# Altium footprint library modulo_alimentador_pcblib.PcbLib: 11 footprints
Each footprint in its own frame and in the unit in brackets; x right, y up, seen from the top. Pads: shape width x height; smd on the part's side, far side on the other; paste and mask are expansions set on the pad; w line width, h text height; cw(c..) or ccw(c..) is an arc to the next point about the centre after c.
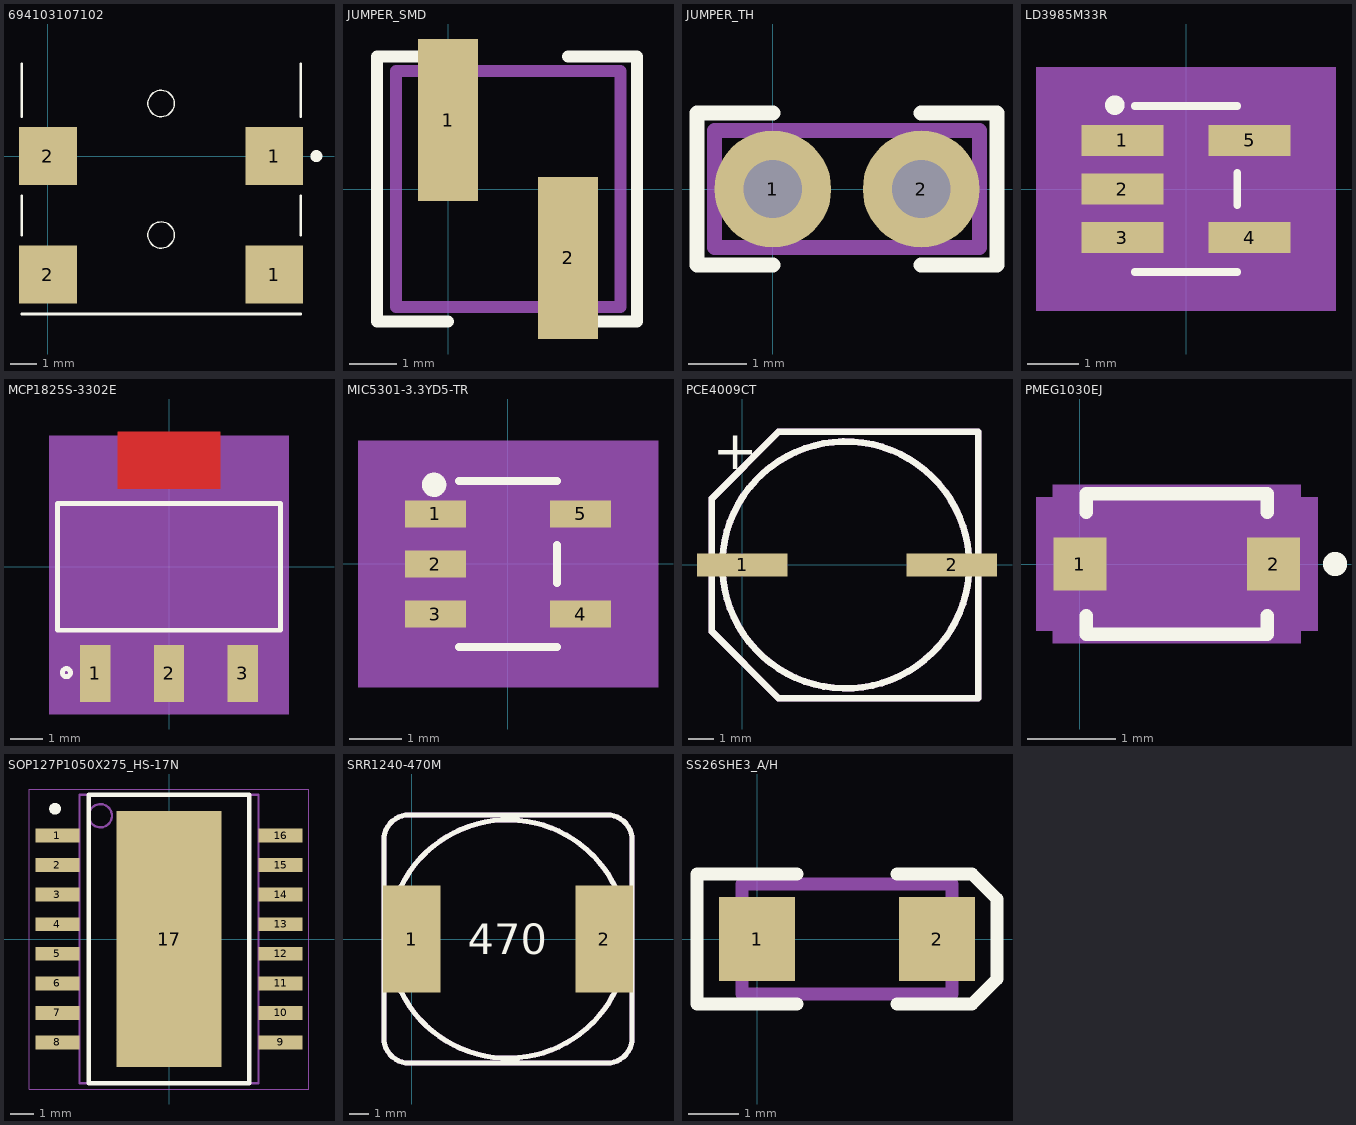
[diagram p0: the footprints below, top view; thin cyan lines are the x and y axes]

## 694103107102 [mm]
height 5.3
pads (4):
  rect 2.2x2.2 smd: 1(8.6,-4.5) 1(8.6,0) 2(0,-4.5) 2(0,0)
Top Overlay:
  circle w0.254: c10.2,0 r0.1
  circle w0.05: c4.3,-3 r0.5
  circle w0.05: c4.3,2 r0.5
  lines w0.1: -1,-6 9.6,-6 ; -1,-3 -1,-1.5 ; -1,1.5 -1,3.5 ; 9.6,-3 9.6,-1.5 ; 9.6,1.5 9.6,3.5
3D body "694102107102.stp": height 5.29, standoff -0.81, extent -0.6,-5.8 9.2,3.5

## JUMPER_SMD [mm]
pads (2):
  rect 1.27x3.43 smd: 1(0,1.46) 2(2.54,-1.46)
Top Overlay:
  lines w0.254: 0,-2.8 -1.5,-2.8 -1.5,2.8 0,2.8 ; 2.54,-2.8 4,-2.8 4,2.8 2.54,2.8
Mechanical 13:
  lines w0.254: -1.1,-2.5 3.65,-2.5 3.65,2.5 -1.1,2.5 -1.1,-2.5
3D body "jumper_aksplt_g-black.stp": height 17.21, standoff 3.8, extent -1.213,-1.212 3.753,1.212
3D body "TSM-102-01-L-SV-TR.stp": height 9.63, standoff -0.02, extent -1.27,-2.641 3.81,2.642

## JUMPER_TH [mm]
pads (2):
  round 2 hole 1: 1(0,0) 2(2.54,0)
Top Overlay:
  lines w0.254: 0,-1.3 -1.3,-1.3 -1.3,1.3 0,1.3 ; 2.54,-1.3 3.84,-1.3 3.84,1.3 2.54,1.3
Mechanical 13:
  lines w0.254: -1,-1 3.54,-1 3.54,1 -1,1 -1,-1
3D body "jumper_aksplt_g-black.stp": height 16.01, standoff 2.6, extent -1.183,-1.212 3.783,1.212
3D body "Header1x2_thughole.STEP": height 8.49, standoff -2.49, extent -1.255,-1.275 3.825,1.265

## LD3985M33R [mm]
pads (5):
  rect 1.61x0.608 smd paste+0 mask+0: 1(-1.244,0.95) 2(-1.244,0) 3(-1.244,-0.95) 4(1.244,-0.95) 5(1.244,0.95)
Top Overlay:
  circle w0.254: c-1.393,1.643 r0.065
  lines w0.152: -1.003,-1.626 1.003,-1.626 ; -1.003,1.626 1.003,1.626 ; 1.003,-0.313 1.003,0.313
Mechanical 5:
  region: 2.938,-2.388 2.938,2.388 -2.938,2.388 -2.938,-2.388
Mechanical 13:
  lines w0.025: -1.499,-1.204 -0.876,-1.204 -0.876,-0.696 -1.499,-0.696 -1.499,-1.204 ; -1.499,-0.254 -0.876,-0.254 -0.876,0.254 -1.499,0.254 -1.499,-0.254 ; -1.499,0.696 -0.876,0.696 -0.876,1.204 -1.499,1.204 -1.499,0.696 ; -0.876,-1.499 -0.876,1.499 0.876,1.499 0.876,-1.499 -0.876,-1.499 ; 0.876,-1.204 1.499,-1.204 1.499,-0.696 0.876,-0.696 0.876,-1.204 ; 0.876,0.696 1.499,0.696 1.499,1.204 0.876,1.204 0.876,0.696
3D body: height 0.25, standoff 0, extent 0,0 0.254,0.254
3D body "SOT23-5L-M.step": height 1.45, standoff 0, extent -1.499,-1.499 1.499,1.499

## MCP1825S-3302E [mil]
pads (3):
  rect 37x70 smd paste+0 mask+0: 1(-90.55,-130.7) 2(0,-130.7) 3(90.55,-130.7)
Top Layer:
  region: 63,95.7 63,165.7 -63,165.7 -63,95.7
Top Overlay:
  circle w6: c-125.98,-129.92 r5
  lines w6: -136.89,-77.83 136.89,-77.83 136.89,77.83 -136.89,77.83 -136.89,-77.83
Top Paste:
  region: 63,95.7 63,165.7 -63,165.7 -63,95.7
Top Solder:
  region: 65,77.7 65,187.7 -65,187.7 -65,77.7
Mechanical 5:
  region: -146.89,160.7 146.89,160.7 146.89,-180.7 -146.89,-180.7
Mechanical 13:
  circle w0: c-121.89,-62.83 r5
  lines w1: -131.89,-72.83 131.89,-72.83 131.89,72.83 -131.89,72.83 -131.89,-72.83 ; -107.05,-143.7 -107.05,-72.83 -74.05,-72.83 -74.05,-143.7 -107.05,-143.7 ; -61,72.83 61,72.83 61,143.7 -61,143.7 -61,72.83 ; -16.5,-143.7 -16.5,-72.83 16.5,-72.83 16.5,-143.7 -16.5,-143.7 ; 74.05,-143.7 74.05,-72.83 107.05,-72.83 107.05,-143.7 74.05,-143.7
3D body: height 10, standoff 0, extent 0,0 10,10
3D body "SOT-223_3MC-M.step": height 70.98, standoff 0, extent -131.88,-143.69 131.9,143.71

## MIC5301-3.3YD5-TR [mil]
pads (5):
  rect 45.5x20 smd paste+0 mask+0: 1(-54.24,37.3) 2(-54.24,-0.1) 3(-54.24,-37.5) 4(54.26,-37.5) 5(54.26,37.3)
Top Overlay:
  circle w10: c-55.12,59.06 r4.06
  lines w6: -36.49,-62.1 36.51,-62.1 ; -36.49,61.9 36.51,61.9 ; 36.51,-14.4 36.51,14.2
Mechanical 5:
  region: 112.01,-92.1 -111.99,-92.1 -111.99,91.9 112.01,91.9
Mechanical 13:
  lines w0: -11.99,56.9 ccw(c0.01,56.9) 12.01,56.9
  lines w1: -54.99,-47.5 -54.99,-27.5 -31.49,-27.5 -31.49,-47.5 -54.99,-47.5 ; -54.99,-10.1 -54.99,9.9 -31.49,9.9 -31.49,-10.1 -54.99,-10.1 ; -54.99,27.3 -54.99,47.3 -31.49,47.3 -31.49,27.3 -54.99,27.3 ; -31.49,-57.1 31.51,-57.1 31.51,56.9 -31.49,56.9 -31.49,-57.1 ; 31.51,-47.5 31.51,-27.5 55.01,-27.5 55.01,-47.5 31.51,-47.5 ; 31.51,27.3 31.51,47.3 55.01,47.3 55.01,27.3 31.51,27.3
3D body: height 10, standoff 0, extent 0.01,-0.1 10.01,9.9
3D body "TSOT-23-5_D5-M.step": height 39.09, standoff 0, extent -54.99,-57 55,57.01

## PCE4009CT [mm]
pads (2):
  rect 3.5x0.9 smd: 1(0,0) 2(8.1,0)
Top Overlay:
  circle w0.254: c4,0 r4.775
  lines w0.254: -1.175,-2.575 -1.175,2.575 1.4,5.15 9.125,5.15 9.125,-5.15 1.4,-5.15 -1.175,-2.575
  text "+" at -1.146,3.7 h1.52
Mechanical 13:
  circle w0.254: c4,0 r4.775
  lines w0.254: -1.175,-2.575 1.4,-5.15 9.125,-5.15 9.125,5.15 1.4,5.15 -1.175,2.575 -1.175,-2.575
  text "+" at -1.146,3.7 h1.52
3D body "EEEFC1E471P.STEP": height 10.2, standoff 0, extent -1.775,-5.15 9.825,5.15

## PMEG1030EJ [mm]
pads (2):
  rect 0.6x0.6 smd: 1(0,0) 2(2.2,0)
Top Overlay:
  circle w0.254: c2.9,0 r0.01
  lines w0.152: 0.071,-0.586 0.071,-0.8 2.129,-0.8 2.129,-0.586 ; 0.071,0.586 0.071,0.8 2.129,0.8 2.129,0.586
Mechanical 13:
  lines w0.025: 1.665,-0.673 2.002,-0.337 ; 1.665,0.673 2.002,0.337 ; -0.246,-0.203 0.198,-0.203 0.198,0.203 -0.246,0.203 -0.246,-0.203 ; 0.198,-0.673 2.002,-0.673 2.002,0.673 0.198,0.673 0.198,-0.673 ; 2.002,-0.203 2.446,-0.203 2.446,0.203 2.002,0.203 2.002,-0.203
Mechanical 15:
  region: -0.31,-0.761 -0.5,-0.761 -0.5,0.761 -0.31,0.761 -0.31,0.9 2.51,0.9 2.51,0.761 2.7,0.761 2.7,-0.761 2.51,-0.761 2.51,-0.9 -0.31,-0.9
3D body "PMEG1030EJ.STEP": height 1, standoff 0, extent -0.15,-0.675 2.35,0.675

## SOP127P1050X275_HS-17N [mm] "SOP, 16-Leads, Body 12,20x7,50mm, Pitch 1,27mm, Thermal Pad 11,00x4,50mm, IPC Medium Density"
height 2.75
pads (17):
  rect 1.9x0.6 smd: 1(-4.8,4.445) 2(-4.8,3.175) 3(-4.8,1.905) 4(-4.8,0.635) 5(-4.8,-0.635) 6(-4.8,-1.905) 7(-4.8,-3.175) 8(-4.8,-4.445) 9(4.8,-4.445) 10(4.8,-3.175) 11(4.8,-1.905) 12(4.8,-0.635) 13(4.8,0.635) 14(4.8,1.905) 15(4.8,3.175) 16(4.8,4.445)
  rect 4.5x11 smd: 17(0,0)
Top Overlay:
  circle w0.25: c-4.9,5.6 r0.125
  lines w0.2: -3.45,-6.2 3.45,-6.2 3.45,6.2 -3.45,6.2 -3.45,-6.2
Mechanical 13:
  circle w0.1: c-2.95,5.3 r0.5
  lines w0.1: -3.85,-6.2 3.85,-6.2 3.85,6.2 -3.85,6.2 -3.85,-6.2
Mechanical 15:
  lines w0.05: -6,-6.45 6,-6.45 6,6.45 -6,6.45 -6,-6.45
3D body "SPI-8001TW.STEP": height 3.5, standoff 0, extent -5.15,-5.1 5.15,5.1

## SRR1240-470M [mm]
pads (2):
  rect 2.9x5.4 smd: 1(0,0) 2(9.7,0)
Top Overlay:
  circle w0.254: c4.85,0 r6
  lines w0.254: -1.4,-4.98 ccw(c-0.13,-4.98) -0.13,-6.25 9.83,-6.25 ccw(c9.83,-4.98) 11.1,-4.98 11.1,4.98 ccw(c9.83,4.98) 9.83,6.25 -0.13,6.25 ccw(c-0.13,4.98) -1.4,4.98 -1.4,-4.98
  text "470" at 2.819,-0.762 h1.52
Mechanical 13:
  circle w0.254: c4.85,0 r6
  lines w0.254: -1.4,-4.98 ccw(c-0.13,-4.98) -0.13,-6.25 9.83,-6.25 ccw(c9.83,-4.98) 11.1,-4.98 11.1,4.98 ccw(c9.83,4.98) 9.83,6.25 -0.13,6.25 ccw(c-0.13,4.98) -1.4,4.98 -1.4,-4.98
3D body "SRR1240.STEP": height 4.5, standoff 0, extent -1.45,-6.25 11.05,6.25

## SS26SHE3_A/H [mm]
pads (2):
  rect 1.52x1.68 smd: 1(0,0) 2(3.6,0)
Top Overlay:
  lines w0.254: -0.5,1.3 -1.2,1.3 ; 0.8,-1.3 -1.2,-1.3 -1.2,1.3 ; 0.8,1.3 -1.2,1.3 ; 2.8,-1.3 4.3,-1.3 4.8,-0.8 4.8,0.8 4.3,1.3 ; 2.8,1.3 4.3,1.3 ; 4.3,1.3 4.3,1.3
Mechanical 13:
  lines w0.254: -0.3,-1.1 3.9,-1.1 3.9,1.1 -0.3,1.1 -0.3,-1.1
3D body "ss26s.STEP": height 2.6, standoff 0.03, extent -0.95,-1.4 4.55,1.4